# EAGLE library part WE-FLEXHV_EFD15 (library WE-FLEX HV)
WE-FLEX HV Flexible Transformer for DC/DC Converter Characteristics Transformer with 6 identical windings 4 sizes with 5 different lengths of air gap each Isolation voltage up to 1.5 kVAC Low leakage inductance Operating temperature: –40 ºC to +125 ºC By using different circuits more than 375 transformer solutions and about 125 choke solutions possible. Consequently, quick prototyping possibilities EFD size parts provide Basic insulation for a working voltage of 250VRMS when they are connteced approbiate Applications Flyback converters Forward converters Push-pull converters Step-up/step-down converters SEPIC <https://katalog.we-online.com/media/images/v2/o97648v209%20Family_WE-FLEX_HV_749196xxx_4C_NEU.jpg> Details see: https://katalog.we-online.com/en/pbs/WE-FLEXHV#vs_ct:3 Updated by Yingchun Shan 2019-08-19 20179(C) Wurth Elektronik
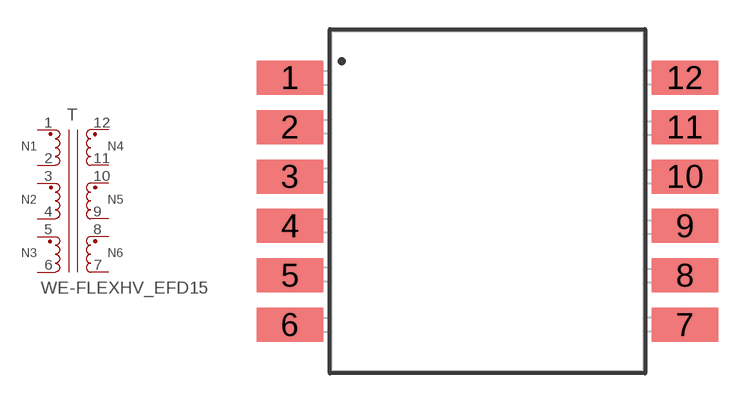
[diagram p0: symbol with the pads of WE-FLEXHV_EFD15; footprint WE-FLEXHV_EFD15]

Designator prefix T

## WE-FLEXHV_EFD15_749196308 (DATASHEET-URL: https://katalog.we-online.com/pbs/datasheet/749196308.pdf; IRBASE: 0.83A; ISATBASE: 0.06A; LSBASE: 0.13uH; N: 1:1:1:1:1:1; PART-NUMBER: 749196308; RDCBASE: 145mOhm; VALUE: 153.8uH; VOLTAGE-USECONDBASE: 61.3uVs; VT: 1500V(AC)), WE-FLEXHV_EFD15_749196318 (DATASHEET-URL: https://katalog.we-online.com/pbs/datasheet/749196318.pdf; IRBASE: 0.83A; ISATBASE: 0.43A; LSBASE: 0.13uH; N: 1:1:1:1:1:1; PART-NUMBER: 749196318; RDCBASE: 145mOhm; VALUE: 23.3uH; VOLTAGE-USECONDBASE: 61.3uVs; VT: 1500V(AC)), WE-FLEXHV_EFD15_749196328 (DATASHEET-URL: https://katalog.we-online.com/pbs/datasheet/749196328.pdf; IRBASE: 0.83A; ISATBASE: 0.72A; LSBASE: 0.13uH; N: 1:1:1:1:1:1; PART-NUMBER: 749196328; RDCBASE: 145mOhm; VALUE: 14.2uH; VOLTAGE-USECONDBASE: 61.3uVs; VT: 1500V(AC)), WE-FLEXHV_EFD15_749196338 (DATASHEET-URL: https://katalog.we-online.com/pbs/datasheet/749196338.pdf; IRBASE: 0.83A; ISATBASE: 1.13A; LSBASE: 0.13uH; N: 1:1:1:1:1:1; PART-NUMBER: 749196338; RDCBASE: 145mOhm; VALUE: 9.3uH; VOLTAGE-USECONDBASE: 61.3uVs; VT: 1500V(AC)), WE-FLEXHV_EFD15_749196348 (DATASHEET-URL: https://katalog.we-online.com/pbs/datasheet/749196348.pdf; IRBASE: 0.83A; ISATBASE: 1.41A; LSBASE: 0.13uH; N: 1:1:1:1:1:1; PART-NUMBER: 749196348; RDCBASE: 145mOhm; VALUE: 7.9uH; VOLTAGE-USECONDBASE: 61.3uVs; VT: 1500V(AC))  [WE-FLEXHV_EFD15]
1  1  pas
2  2  pas
3  3  pas
4  4  pas
5  5  pas
6  6  pas
7  7  pas
8  8  pas
9  9  pas
10  10  pas
11  11  pas
12  12  pas

## Footprint WE-FLEXHV_EFD15 (pad centres in mm)
WE-FLEX HV Flexible Transformer for DC/DC Converter Size: EFD15 SMD 12Pin
smd 3.43 x 1.75: 1 -10.155,6.35; 2 -10.155,3.81; 3 -10.155,1.27; 4 -10.155,-1.27; 5 -10.155,-3.81; 6 -10.155,-6.35; 7 10.155,-6.35; 8 10.155,-3.81; 9 10.155,-1.27; 10 10.155,1.27; 11 10.155,3.81; 12 10.155,6.35